# Altium footprint library DIOAD1068W53L380D172.PcbLib: 1 footprints
Each footprint in its own frame and in the unit in brackets; x right, y up, seen from the top. Pads: shape width x height; smd on the part's side, far side on the other; paste and mask are expansions set on the pad; w line width, h text height; cw(c..) or ccw(c..) is an arc to the next point about the centre after c.
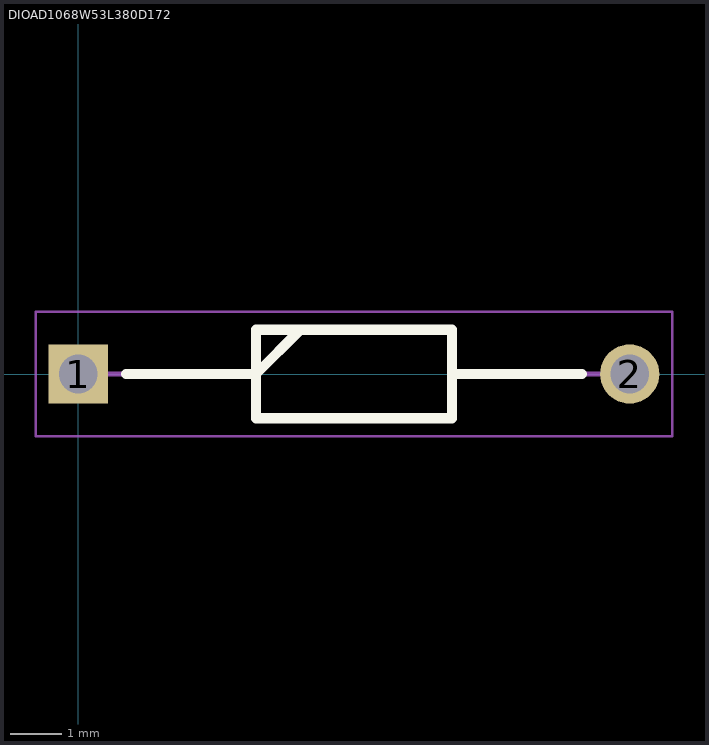
[diagram p0: the footprint, top view; thin cyan lines are the x and y axes]

## DIOAD1068W53L380D172 [mm]
pads (2):
  rect 1.15x1.15 / inner round 1.15 / far side rect 1.15x1.15 hole 0.75: 1(0,0)
  round 1.15 hole 0.75: 2(10.7,0)
Top Overlay:
  lines w0.2: 0.925,0 3.448,0 4.308,0.86 ; 7.252,0 9.775,0 ; 3.448,-0.86 7.252,-0.86 7.252,0.86 3.448,0.86 3.448,-0.86
Mechanical 15:
  lines w0.1: 0,0 3.448,0 4.308,0.86 ; 7.252,0 10.7,0 ; 3.448,-0.86 7.253,-0.86 7.253,0.86 3.448,0.86 3.448,-0.86
Mechanical 20:
  lines w0.05: -0.825,-1.21 11.525,-1.21 11.525,1.21 -0.825,1.21 -0.825,-1.21